# EAGLE library part SWITCH_ANALOG_ADG731BCP (library !GPLIB_ACTIVE)
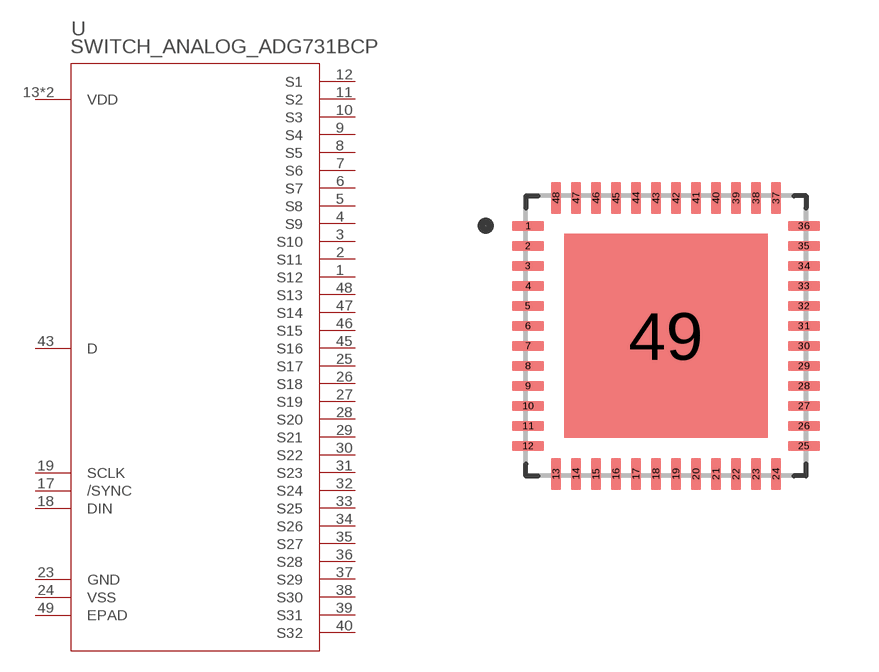
[diagram p41: symbol with the pads of QFN50P700X700X80-49N; footprint QFN50P700X700X80-49N]

Designator prefix U

## SWITCH_ANALOG_ADG731BCP  [QFN50P700X700X80-49N]
1  S12
2  S11
3  S10
4  S9
5  S8
6  S7
7  S6
8  S5
9  S4
10  S3
11  S2
12  S1
13  VDD  pwr
14  VDD  pwr
17  /SYNC  in
18  DIN  in
19  SCLK  in
23  GND  pas
24  VSS  pas
25  S17
26  S18
27  S19
28  S20
29  S21
30  S22
31  S23
32  S24
33  S25
34  S26
35  S27
36  S28
37  S29
38  S30
39  S31
40  S32
43  D
45  S16
46  S15
47  S14
48  S13
49  EPAD  pas

## Footprint QFN50P700X700X80-49N (pad centres in mm)
smd 0.81 x 0.26: 1 -3.45,2.75; 2 -3.45,2.25; 3 -3.45,1.75; 4 -3.45,1.25; 5 -3.45,0.75; 6 -3.45,0.25; 7 -3.45,-0.25; 8 -3.45,-0.75; 9 -3.45,-1.25; 10 -3.45,-1.75; 11 -3.45,-2.25; 12 -3.45,-2.75; 25 3.45,-2.75; 26 3.45,-2.25; 27 3.45,-1.75; 28 3.45,-1.25; 29 3.45,-0.75; 30 3.45,-0.25; 31 3.45,0.25; 32 3.45,0.75; 33 3.45,1.25; 34 3.45,1.75; 35 3.45,2.25; 36 3.45,2.75
smd 0.26 x 0.81: 13 -2.75,-3.45; 14 -2.25,-3.45; 15 -1.75,-3.45; 16 -1.25,-3.45; 17 -0.75,-3.45; 18 -0.25,-3.45; 19 0.25,-3.45; 20 0.75,-3.45; 21 1.25,-3.45; 22 1.75,-3.45; 23 2.25,-3.45; 24 2.75,-3.45; 37 2.75,3.45; 38 2.25,3.45; 39 1.75,3.45; 40 1.25,3.45; 41 0.75,3.45; 42 0.25,3.45; 43 -0.25,3.45; 44 -0.75,3.45; 45 -1.25,3.45; 46 -1.75,3.45; 47 -2.25,3.45; 48 -2.75,3.45
smd 5.1 x 5.1: 49 0,0